# Altium footprint library Sucaiku.PcbLib: 51 footprints (part 1 of 4)
Each footprint in its own frame and in the unit in brackets; x right, y up, seen from the top. Pads: shape width x height; smd on the part's side, far side on the other; paste and mask are expansions set on the pad; w line width, h text height; cw(c..) or ccw(c..) is an arc to the next point about the centre after c.
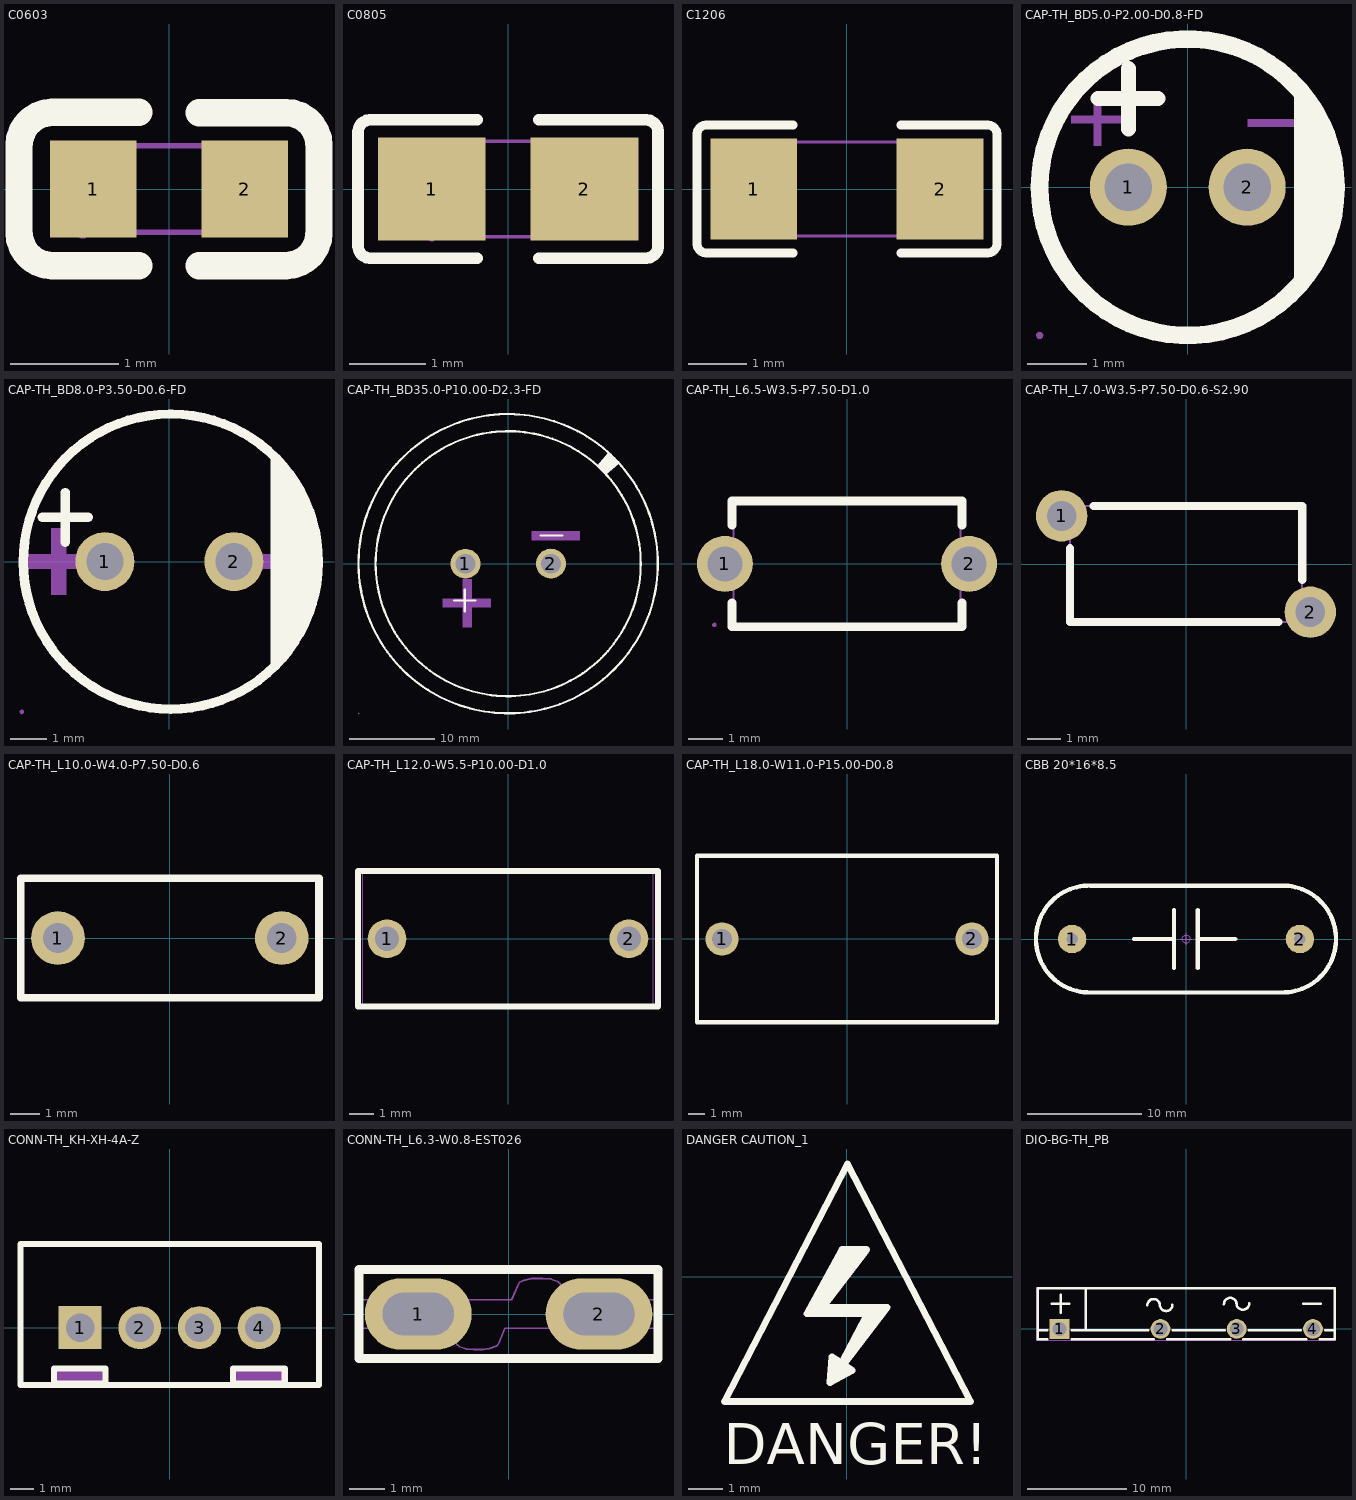
[diagram p0: the footprints below, top view; thin cyan lines are the x and y axes]

## C0603 [mil]
pads (2):
  rect 31.5x35.4 smd: 1(-27.6,0) 2(27.6,0)
Top Overlay:
  lines w10: -11,-27.9 -42.5,-27.9 -45.2,-27.6 -47.8,-26.7 -50.1,-25.3 -52.1,-23.3 -53.5,-21 -54.4,-18.4 -54.7,-15.7 -54.7,15.8 -54.4,18.5 -53.5,21.1 -52.1,23.4 -50.1,25.3 -47.8,26.8 -45.2,27.7 -42.5,28 -11,28 ; 11,-27.9 42.5,-27.9 45.2,-27.6 47.8,-26.7 50.1,-25.3 52.1,-23.4 53.5,-21 54.4,-18.5 54.7,-15.7 54.7,15.7 54.4,18.5 53.5,21 52.1,23.4 50.1,25.3 47.8,26.7 45.2,27.6 42.5,27.9 11,27.9
Mechanical 7:
  lines w2: -31.5,-15.7 -31.5,15.8 31.5,15.8 31.5,-15.7 -31.5,-15.7
Mechanical 8:
  region: -29.1,-15.7 -29.5,-17 -30.5,-17.9 -31.8,-18.1 -33,-17.5 -33.8,-16.4 -33.8,-15.1 -33,-14 -31.8,-13.4 -30.5,-13.6 -29.5,-14.5
Mechanical 9:
  region: -31.5,-15.7 -31.5,15.8 -19.7,15.8 -19.7,-15.7
  region: 31.5,-15.7 31.5,15.8 19.7,15.8 19.7,-15.7

## C0805 [mil]
pads (2):
  rect 55.5x53.1 smd paste-3937 mask+2: 1(-39.3,0) 2(39.4,0)
Top Overlay:
  lines w6: -15.8,-35.6 -71.3,-35.6 -73.1,-35.3 -74.8,-34.4 -76.1,-33.1 -77,-31.4 -77.3,-29.6 -77.3,29.6 -77,31.4 -76.1,33.1 -74.8,34.4 -73.1,35.3 -71.3,35.6 -15.8,35.6 ; 15.8,-35.6 71.3,-35.6 73.2,-35.3 74.9,-34.4 76.2,-33.1 77.1,-31.4 77.3,-29.6 77.3,29.6 77.1,31.4 76.2,33.1 74.9,34.4 73.2,35.3 71.3,35.6 15.8,35.6
Top Paste:
  region: 67.2,25.2 67.2,-25.2 65.2,-27.2 19.9,-27.2 17.9,-25.2 17.8,-9.1 35.5,-9.1 35.5,8.6 18.1,8.6 17.9,25.2 19.9,27.2 65.2,27.2
  region: -67.1,-25.2 -67.1,25.2 -65.1,27.1 -19.8,27.1 -17.9,25.2 -17.7,9 -35.4,9 -35.4,-8.7 -18.1,-8.7 -17.9,-25.2 -19.8,-27.2 -65.1,-27.2
Mechanical 7:
  lines w2: -39.3,-24.6 39.4,-24.6 39.4,24.6 -39.3,24.6 -39.3,-24.6
Mechanical 8:
  region: -37,-24.6 -37.3,-25.9 -38.4,-26.8 -39.7,-27 -40.9,-26.4 -41.6,-25.3 -41.6,-24 -40.9,-22.8 -39.7,-22.3 -38.4,-22.5 -37.3,-23.3
Mechanical 9:
  region: 39.4,24.6 39.4,-24.6 19.7,-24.6 19.7,24.6
  region: -39.3,-24.6 -39.3,24.6 -19.6,24.6 -19.6,-24.6

## C1206 [mil]
pads (2):
  rect 58.5x68 smd paste-3937 mask+2: 1(-62.7,0) 2(62.7,0)
Top Overlay:
  lines w6: -36.4,-43 -94.9,-43 -96.7,-42.7 -98.4,-41.9 -99.7,-40.5 -100.6,-38.9 -100.9,-37 -100.9,37 -100.6,38.9 -99.7,40.5 -98.4,41.9 -96.7,42.7 -94.9,43 -36.4,43 ; 36.5,-43 95,-43 96.8,-42.7 98.5,-41.9 99.8,-40.5 100.7,-38.9 101,-37 101,37 100.7,38.9 99.8,40.5 98.5,41.9 96.8,42.7 95,43 36.5,43
Top Paste:
  region: 33.5,-30.1 33.5,-15.5 37.4,-11.6 49.4,-11.6 53.4,-7.6 53.4,7.6 49.4,11.6 37.4,11.6 33.5,15.5 33.5,30.1 37.4,34 88,34 92,30.1 92,-30.1 88,-34 37.4,-34
  region: -33.4,-30.1 -33.4,-15.5 -37.4,-11.6 -49.4,-11.6 -53.3,-7.6 -53.3,7.6 -49.4,11.6 -37.4,11.6 -33.4,15.5 -33.4,30.1 -37.4,34 -88,34 -91.9,30.1 -91.9,-30.1 -88,-34 -37.4,-34
Mechanical 7:
  lines w2: -63,-31.5 -63,31.5 63,31.5 63,-31.5 -63,-31.5
Mechanical 8:
  region: -60.6,-31.5 -61,-32.8 -62,-33.6 -63.3,-33.8 -64.5,-33.3 -65.2,-32.2 -65.2,-30.8 -64.5,-29.7 -63.3,-29.2 -62,-29.3 -61,-30.2
Mechanical 9:
  region: -63,-31.5 -63,31.5 -43.3,31.5 -43.3,-31.5
  region: 63,-31.5 63,31.5 43.3,31.5 43.3,-31.5

## CAP-TH_BD5.0-P2.00-D0.8-FD [mil]
pads (2):
  round 51.2 hole 31.5: 1(-39.4,0) 2(39.4,0)
Top Overlay:
  region: 70.6,65 76.2,59.2 81.3,52.8 85.7,46.1 89.5,39 92.7,31.6 95.2,23.9 97,16 98.1,8 98.4,0 98.1,-8.1 97,-16.1 95.2,-23.9 92.7,-31.6 89.5,-39 85.7,-46.1 81.3,-52.9 76.2,-59.2 70.6,-65 70.6,65
  lines w10: -59.7,59 -19.7,59 ; -39.4,38.7 -39.4,78.7
  lines w11.8: -98.4,0 -98,-8.8 -96.8,-17.6 -94.9,-26.2 -92.1,-34.6 -88.7,-42.7 -84.5,-50.5 -79.6,-57.9 -74.1,-64.8 -68,-71.2 -61.4,-77 -54.2,-82.2 -46.6,-86.7 -38.7,-90.5 -30.4,-93.6 -21.9,-96 -13.2,-97.6 -4.4,-98.3 4.4,-98.3 13.2,-97.6 21.9,-96 30.4,-93.6 38.7,-90.5 46.7,-86.7 54.2,-82.2 61.4,-77 68,-71.2 74.1,-64.8 79.6,-57.9 84.5,-50.5 88.7,-42.7 92.2,-34.6 94.9,-26.2 96.9,-17.6 98,-8.8 98.4,0 98,8.8 96.9,17.6 94.9,26.2 92.2,34.6 88.7,42.7 84.5,50.5 79.6,57.8 74.1,64.7 68,71.1 61.4,76.9 54.2,82.1 46.7,86.7 38.7,90.5 30.4,93.6 21.9,95.9 13.2,97.5 4.4,98.3 -4.4,98.3 -13.2,97.5 -21.9,95.9 -30.4,93.6 -38.7,90.5 -46.6,86.7 -54.2,82.1 -61.4,76.9 -68,71.1 -74.1,64.7 -79.6,57.8 -84.5,50.5 -88.7,42.7 -92.1,34.6 -94.9,26.2 -96.8,17.6 -98,8.8 -98.4,0
Mechanical 6:
  region: -77.5,47.5 -42.5,47.5 -42.5,42.5 -77.5,42.5
  region: -62.5,27.5 -62.5,62.5 -57.5,62.5 -57.5,27.5
  region: 40,45 75,45 75,40 40,40
Mechanical 7:
  lines w2: -98.4,0 ccw(c0,0) 0,-98.4 ccw(c0,0) 98.4,0 ccw(c0,0) 0,98.4 ccw(c0,0) -98.4,0
Mechanical 8:
  region: -96.1,-98.4 -96.4,-99.7 -97.4,-100.6 -98.8,-100.8 -100,-100.2 -100.7,-99.1 -100.7,-97.8 -100,-96.7 -98.8,-96.1 -97.4,-96.3 -96.4,-97.2
Mechanical 9:
  region: -27.5,0 -27.9,-3 -29,-5.7 -30.7,-8.1 -33,-10 -35.7,-11.3 -38.6,-11.8 -41.6,-11.6 -44.4,-10.7 -46.9,-9.1 -48.9,-7 -50.3,-4.4 -51.1,-1.5 -51.1,1.5 -50.3,4.3 -48.9,6.9 -46.9,9.1 -44.4,10.7 -41.6,11.6 -38.6,11.8 -35.7,11.2 -33,10 -30.7,8.1 -29,5.7 -27.9,2.9
  region: 51.2,0 50.8,-3 49.7,-5.7 48,-8.1 45.7,-10 43,-11.3 40.1,-11.8 37.2,-11.6 34.3,-10.7 31.8,-9.1 29.8,-7 28.4,-4.4 27.7,-1.5 27.7,1.5 28.4,4.3 29.8,6.9 31.8,9.1 34.3,10.7 37.2,11.6 40.1,11.8 43,11.2 45.7,10 48,8.1 49.7,5.7 50.8,2.9

## CAP-TH_BD8.0-P3.50-D0.6-FD [mil]
pads (2):
  round 63 hole 39.4: 1(-68.9,0) 2(68.9,0)
Top Overlay:
  region: 108.3,-118.1 115.8,-109.7 122.8,-100.7 129.1,-91.4 134.9,-81.6 139.9,-71.4 144.3,-61 148,-50.3 150.9,-39.3 153.2,-28.2 154.7,-17 155.4,-5.7 155.4,5.6 154.7,16.9 153.2,28.2 150.9,39.3 148,50.2 144.3,60.9 139.9,71.4 134.9,81.5 129.1,91.3 122.8,100.7 115.8,109.6 108.3,118.1 108.3,-118.1
  lines w10: -135.6,47.2 -86.6,47.2 ; -111.1,20.7 -111.1,73.7 ; 0.1,157.5 -11.1,157 -22.2,155.7 -33.2,153.6 -44.1,150.7 -54.7,147.1 -65,142.7 -75,137.6 -84.6,131.8 -93.8,125.4 -102.4,118.3 -110.6,110.6 -118.2,102.3 -125.1,93.6 -131.5,84.3 -137.1,74.7 -142.1,64.6 -146.3,54.2 -149.8,43.6 -152.5,32.7 -154.5,21.6 -155.6,10.5 -156,-0.7 -155.5,-11.9 -154.3,-23.1 -152.2,-34.1 -149.4,-44.9 -145.9,-55.5 -141.5,-65.9 -136.5,-75.9 -130.7,-85.5 -124.3,-94.7 -117.3,-103.4 -109.6,-111.6 -101.4,-119.2 -92.6,-126.3 -83.4,-132.6 -73.8,-138.3 -63.7,-143.3 -53.4,-147.6 -42.7,-151.1 -31.9,-153.9 -20.8,-155.9 -9.7,-157.1 1.5,-157.5 12.7,-157.1 23.9,-155.9 34.9,-153.9 45.8,-151.1 56.4,-147.6 66.8,-143.3 76.8,-138.3 86.4,-132.6 95.7,-126.3 104.4,-119.2 112.6,-111.6 120.3,-103.4 127.3,-94.7 133.7,-85.5 139.5,-75.9 144.5,-65.9 148.9,-55.5 152.4,-44.9 155.3,-34.1 157.3,-23.1 158.5,-11.9 159,-0.7 158.6,10.5 157.5,21.6 155.6,32.7 152.8,43.6 149.4,54.2 145.1,64.6 140.2,74.7 134.5,84.3 128.2,93.6 121.2,102.3 113.6,110.6 105.5,118.3 96.8,125.4 87.6,131.8 78,137.6 68,142.7 57.7,147.1 47.1,150.7 36.3,153.6 25.2,155.7 14.1,157 2.9,157.5
Mechanical 6:
  region: 137.8,7.8 82.7,7.8 82.7,-7.9 145.7,-7.9 153.6,-7.9 153.6,7.8
  region: -98.4,7.8 -153.5,7.8 -153.5,-7.9 -90.5,-7.9 -82.7,-7.9 -82.7,7.8
  region: -126,19.7 -126,-35.5 -110.2,-35.5 -110.2,27.5 -110.2,35.4 -126,35.4
Mechanical 7:
  circle w2: c0,-2.9 r157.5
  lines w2: -0.1,-160.3 0,-160.3
Mechanical 8:
  region: -155.2,-160.3 -155.5,-161.6 -156.5,-162.5 -157.9,-162.7 -159.1,-162.1 -159.8,-161 -159.8,-159.7 -159.1,-158.6 -157.9,-158 -156.5,-158.2 -155.5,-159.1
Mechanical 9:
  region: 80.7,0 80.4,-3 79.3,-5.7 77.5,-8.1 75.2,-10 72.6,-11.3 69.7,-11.8 66.7,-11.6 63.9,-10.7 61.4,-9.1 59.3,-7 57.9,-4.4 57.2,-1.5 57.2,1.4 57.9,4.3 59.3,6.9 61.4,9.1 63.9,10.7 66.7,11.6 69.7,11.8 72.6,11.2 75.2,9.9 77.5,8.1 79.3,5.7 80.4,2.9
  region: -57.1,0 -57.4,-3 -58.5,-5.7 -60.3,-8.1 -62.6,-10 -65.2,-11.3 -68.1,-11.8 -71.1,-11.6 -73.9,-10.7 -76.4,-9.1 -78.5,-7 -79.9,-4.4 -80.6,-1.5 -80.6,1.4 -79.9,4.3 -78.5,6.9 -76.4,9.1 -73.9,10.7 -71.1,11.6 -68.1,11.8 -65.2,11.2 -62.6,9.9 -60.3,8.1 -58.5,5.7 -57.4,2.9

## CAP-TH_BD35.0-P10.00-D2.3-FD [mil]
pads (2):
  round 137.8 hole 90.6: 1(-196.86,-0.19) 2(196.86,0.19)
Top Overlay:
  drawing of 363 lines, arcs and shapes, not listed
Mechanical 6:
  region: -301.31,-201.5 -301.34,-161.49 -81.36,-161.26 -81.34,-201.27
  region: -168.48,-291.67 -208.49,-291.69 -208.61,-71.62 -168.7,-71.6
  region: 108.89,108.87 108.87,148.88 328.84,149.01 328.86,109
Mechanical 7:
  lines w2: -689.2,0 cw(c0,0) 689.2,0 cw(c0,0) -689.2,0
Mechanical 8:
  region: -686.16,-689.74 -686.59,-691.03 -687.61,-691.91 -688.91,-692.07 -690.1,-691.55 -690.87,-690.43 -690.84,-689.03 -690.11,-687.94 -688.9,-687.37 -687.61,-687.61 -686.62,-688.43
Mechanical 9:
  region: -226.39,15.54 -167.27,15.59 -167.24,-15.82 -226.36,-15.87
  region: 167.34,15.92 226.36,15.97 226.39,-15.54 167.37,-15.59

## CAP-TH_L6.5-W3.5-P7.50-D1.0 [mil]
pads (2):
  round 63 hole 39.4: 1(-137.8,0) 2(137.7,0)
Top Overlay:
  lines w10: -130,-43.8 -130,-70.9 129.9,-70.9 129.9,-43.8 ; -130,43.8 -130,70.9 129.9,70.9 129.9,43.8
Mechanical 7:
  lines w2: -128,-68.9 -128,68.9 127.9,68.9 127.9,-68.9 -128,-68.9
Mechanical 8:
  region: -147.3,-68.9 -147.7,-70.2 -148.7,-71 -150,-71.2 -151.2,-70.7 -151.9,-69.6 -151.9,-68.2 -151.2,-67.1 -150,-66.6 -148.7,-66.7 -147.7,-67.6
Mechanical 9:
  region: -126,0 -126.4,-2.9 -127.5,-5.7 -129.2,-8.1 -131.5,-10 -134.2,-11.2 -137.1,-11.8 -140,-11.6 -142.9,-10.7 -145.4,-9.1 -147.4,-6.9 -148.8,-4.3 -149.6,-1.5 -149.6,1.5 -148.8,4.4 -147.4,7 -145.4,9.1 -142.9,10.7 -140,11.6 -137.1,11.8 -134.2,11.2 -131.5,10 -129.2,8.1 -127.5,5.7 -126.4,2.9
  region: 149.6,0 149.2,-2.9 148.1,-5.7 146.4,-8.1 144.1,-10 141.4,-11.2 138.5,-11.8 135.5,-11.6 132.7,-10.7 130.2,-9.1 128.2,-6.9 126.8,-4.3 126,-1.5 126,1.5 126.8,4.4 128.2,7 130.2,9.1 132.7,10.7 135.5,11.6 138.5,11.8 141.4,11.2 144.1,10 146.4,8.1 148.1,5.7 149.2,2.9

## CAP-TH_L7.0-W3.5-P7.50-D0.6-S2.90 [mil]
pads (2):
  round 61 hole 35.4 paste-99999 mask+2: 1(-147.7,57.1) 2(147.6,-57.1)
Top Overlay:
  lines w10: -137.8,18.7 -137.8,-68.9 109.8,-68.9 ; -109.9,68.9 137.8,68.9 137.8,-18.7
Mechanical 7:
  lines w2: -137.8,-68.9 -137.8,68.9 137.8,68.9 137.8,-68.9 -137.8,-68.9
Mechanical 8:
  region: -157.1,68.9 -157.5,67.6 -158.5,66.8 -159.8,66.6 -161,67.1 -161.7,68.3 -161.7,69.6 -161,70.7 -159.8,71.3 -158.5,71.1 -157.5,70.2
Mechanical 9:
  region: 159.4,-57.1 159.1,-60 158,-62.8 156.2,-65.2 153.9,-67 151.3,-68.3 148.3,-68.9 145.4,-68.7 142.6,-67.8 140.1,-66.2 138,-64 136.6,-61.4 135.9,-58.6 135.9,-55.6 136.6,-52.7 138,-50.1 140.1,-48 142.6,-46.4 145.4,-45.5 148.3,-45.3 151.3,-45.8 153.9,-47.1 156.2,-49 158,-51.4 159.1,-54.1
  region: -135.8,57.1 -136.2,54.2 -137.3,51.4 -139.1,49 -141.3,47.1 -144,45.9 -146.9,45.3 -149.9,45.5 -152.7,46.4 -155.2,48 -157.2,50.2 -158.6,52.8 -159.4,55.6 -159.4,58.6 -158.6,61.5 -157.2,64.1 -155.2,66.2 -152.7,67.8 -149.9,68.7 -146.9,68.9 -144,68.3 -141.3,67.1 -139.1,65.2 -137.3,62.8 -136.2,60

## CAP-TH_L10.0-W4.0-P7.50-D0.6 [mil]
pads (2):
  round 70.9 hole 39.4: 1(-147.7,0) 2(147.6,0)
Top Overlay:
  lines w10: -196.9,-78.8 -196.9,78.7 196.8,78.7 196.8,-78.8 -196.9,-78.8
Mechanical 7:
  lines w2: -196.9,-78.8 -196.9,78.7 196.8,78.7 196.8,-78.8 -196.9,-78.8
Mechanical 8:
  region: -194.5,-78.8 -194.9,-80 -195.9,-80.9 -197.2,-81.1 -198.4,-80.5 -199.1,-79.4 -199.1,-78.1 -198.4,-77 -197.2,-76.4 -195.9,-76.6 -194.9,-77.5
Mechanical 9:
  region: -135.8,0 -136.2,-3 -137.3,-5.7 -139,-8.1 -141.3,-10 -144,-11.3 -146.9,-11.8 -149.9,-11.6 -152.7,-10.7 -155.2,-9.1 -157.2,-7 -158.6,-4.4 -159.4,-1.5 -159.4,1.5 -158.6,4.3 -157.2,6.9 -155.2,9.1 -152.7,10.7 -149.9,11.6 -146.9,11.8 -144,11.2 -141.3,9.9 -139,8.1 -137.3,5.7 -136.2,2.9
  region: 159.4,0 159.1,-3 158,-5.7 156.2,-8.1 154,-10 151.3,-11.3 148.4,-11.8 145.4,-11.6 142.6,-10.7 140.1,-9.1 138.1,-7 136.6,-4.4 135.9,-1.5 135.9,1.5 136.6,4.3 138.1,6.9 140.1,9.1 142.6,10.7 145.4,11.6 148.4,11.8 151.3,11.2 154,9.9 156.2,8.1 158,5.7 159.1,2.9

## CAP-TH_L12.0-W5.5-P10.00-D1.0 [mil]
pads (2):
  round 63 hole 39.4: 1(-196.9,0) 2(196.8,0)
Top Overlay:
  lines w10: -244.1,-110.3 244.1,-110.3 244.1,110.2 -244.1,110.2 -244.1,-110.3
Mechanical 7:
  lines w2: -236.2,-108.3 236.2,-108.3 236.2,108.2 -236.2,108.2 -236.2,-108.3
Mechanical 8:
  region: -233.9,-108.3 -234.2,-109.6 -235.2,-110.5 -236.6,-110.7 -237.8,-110.1 -238.5,-109 -238.5,-107.6 -237.8,-106.5 -236.6,-106 -235.2,-106.2 -234.2,-107
Mechanical 9:
  region: -185,0 -185.4,-3 -186.5,-5.7 -188.3,-8.1 -190.5,-10 -193.2,-11.3 -196.1,-11.8 -199.1,-11.6 -201.9,-10.7 -204.4,-9.1 -206.4,-7 -207.8,-4.4 -208.6,-1.5 -208.6,1.4 -207.8,4.3 -206.4,6.9 -204.4,9.1 -201.9,10.6 -199.1,11.6 -196.1,11.7 -193.2,11.2 -190.5,9.9 -188.3,8 -186.5,5.6 -185.4,2.9
  region: 208.7,0 208.3,-3 207.2,-5.7 205.4,-8.1 203.2,-10 200.5,-11.3 197.6,-11.8 194.6,-11.6 191.8,-10.7 189.3,-9.1 187.3,-7 185.9,-4.4 185.1,-1.5 185.1,1.4 185.9,4.3 187.3,6.9 189.3,9.1 191.8,10.6 194.6,11.6 197.6,11.7 200.5,11.2 203.2,9.9 205.4,8 207.2,5.6 208.3,2.9

## CAP-TH_L18.0-W11.0-P15.00-D0.8 [mil]
pads (2):
  round 78.7 hole 47.2: 1(-295.3,0) 2(295.2,0)
Top Overlay:
  lines w10: -354.4,-196.9 -354.4,196.8 354.3,196.8 354.3,-196.9 -354.4,-196.9
Mechanical 9:
  region: -279.6,0 -280,-3.5 -281.1,-6.8 -283,-9.8 -285.5,-12.3 -288.5,-14.2 -291.8,-15.4 -295.3,-15.8 -298.8,-15.4 -302.1,-14.2 -305.1,-12.3 -307.6,-9.8 -309.5,-6.8 -310.7,-3.5 -311.1,0 -310.7,3.5 -309.5,6.8 -307.6,9.8 -305.1,12.3 -302.1,14.2 -298.8,15.3 -295.3,15.7 -291.8,15.3 -288.5,14.2 -285.5,12.3 -283,9.8 -281.1,6.8 -280,3.5
  region: 311,0 310.6,-3.5 309.4,-6.8 307.6,-9.8 305.1,-12.3 302.1,-14.2 298.8,-15.4 295.3,-15.8 291.7,-15.4 288.4,-14.2 285.4,-12.3 282.9,-9.8 281.1,-6.8 279.9,-3.5 279.5,0 279.9,3.5 281.1,6.8 282.9,9.8 285.4,12.3 288.4,14.2 291.7,15.3 295.3,15.7 298.8,15.3 302.1,14.2 305.1,12.3 307.6,9.8 309.4,6.8 310.6,3.5

## CBB 20*16*8.5 [mil]
pads (2):
  round 98.4 hole 39.4: 1(-393.7,0) 2(393.7,0)
Top Overlay:
  lines w15: -330,184.3 350,184.3 ; -330,184.7 -342,184.5 -354,183.6 -365.9,181.9 -377.6,179.4 -389.1,176.2 -400.5,172.2 -411.5,167.6 -422.2,162.2 -432.5,156.1 -442.5,149.3 -451.9,142 -460.9,134 -469.3,125.5 -477.2,116.4 -484.4,106.8 -491,96.8 -497,86.4 -502.2,75.7 -506.8,64.6 -510.6,53.2 -513.7,41.6 -516,29.8 -517.6,18 -518.4,6 -518.4,-6 -517.6,-18 -516,-29.9 -513.7,-41.6 -510.6,-53.2 -506.8,-64.6 -502.2,-75.7 -497,-86.5 -491,-96.9 -484.4,-106.9 -477.2,-116.4 -469.3,-125.5 -460.9,-134 -451.9,-142 -442.4,-149.3 -432.5,-156.1 -422.2,-162.2 -411.5,-167.6 -400.4,-172.3 -389.1,-176.2 -377.6,-179.4 -365.8,-181.9 -354,-183.6 -342,-184.5 -330,-184.7 330,-184.7 342,-184.5 353.9,-183.6 365.8,-181.9 377.5,-179.4 389.1,-176.2 400.4,-172.2 411.4,-167.6 422.1,-162.2 432.5,-156.1 442.4,-149.3 451.9,-142 460.8,-134 469.2,-125.5 477.1,-116.4 484.4,-106.8 491,-96.8 496.9,-86.4 502.2,-75.7 506.7,-64.6 510.6,-53.2 513.6,-41.6 516,-29.8 517.5,-18 518.3,-6 518.3,6 517.5,18 516,29.9 513.6,41.6 510.6,53.2 506.7,64.6 502.2,75.7 496.9,86.5 491,96.9 484.3,106.9 477.1,116.4 469.2,125.5 460.8,134 451.8,142 442.4,149.3 432.5,156.1 422.1,162.2 411.4,167.6 400.4,172.3 389.1,176.2 377.5,179.4 365.8,181.9 353.9,183.6 341.9,184.5 330,184.7 ; -180,0 -50.3,0 ; -41.5,-100 -41.5,100 ; 40,-100 40,100 ; 40,0 170,0
Mechanical 15:
  lines w2: -19.7,0 19.7,0 ; 0,-19.7 0,19.7 ; -13.7,-1.6 -13,-4.7 -11.5,-7.6 -9.5,-10 -6.9,-11.9 -4,-13.2 -0.8,-13.8 2.4,-13.6 5.4,-12.7 8.2,-11.1 10.5,-8.9 12.3,-6.2 13.4,-3.2 13.7,0 13.4,3.2 12.3,6.2 10.5,8.9 8.2,11.1 5.4,12.7 2.4,13.6 -0.8,13.8 -4,13.2 -6.9,11.9 -9.5,10 -11.5,7.6 -13,4.7 -13.7,1.6 -13.7,-1.6

## CONN-TH_KH-XH-4A-Z [mil]
pads (4):
  rect 70.9x70.9 hole 47.2 paste-99999 mask+2: 1(-147.6,0)
  round 70.9 hole 47.2 paste-99999 mask+2: 2(-49.2,0) 3(49.2,0) 4(147.6,0)
Top Overlay:
  lines w10: -246.1,-94.5 -246.1,137.8 246.1,137.8 246.1,-94.5 -246.1,-94.5 ; -190.6,-92.5 -190.6,-67.5 -105.6,-67.5 -105.6,-92.5 -190.6,-92.5 ; 104.6,-92.5 104.6,-67.5 189.6,-67.5 189.6,-92.5 104.6,-92.5
Mechanical 6:
  region: -190.9,-92.1 -190.9,-68.1 -104.3,-68.1 -104.3,-92.1
  region: 104.3,-92.1 104.3,-68.1 190.9,-68.1 190.9,-92.1
Mechanical 7:
  lines w2: -246.1,-92.5 -246.1,139.7 246.1,139.7 246.1,-92.5 -246.1,-92.5
Mechanical 8:
  region: -243.7,-92.5 -244.1,-93.8 -245.1,-94.7 -246.4,-94.9 -247.6,-94.3 -248.3,-93.2 -248.3,-91.9 -247.6,-90.8 -246.4,-90.2 -245.1,-90.4 -244.1,-91.3
Mechanical 9:
  region: -160.2,15.7 -135,15.7 -135,-15.8 -160.2,-15.8
  region: -61.8,15.7 -36.6,15.7 -36.6,-15.8 -61.8,-15.8
  region: 36.6,15.7 61.8,15.7 61.8,-15.8 36.6,-15.8
  region: 135,15.7 160.2,15.7 160.2,-15.8 135,-15.8

## CONN-TH_L6.3-W0.8-EST026 [mil]
pads (2):
  oval 118.1x78.7 hole 47.2 slot 78.7 at 0 deg: 1(-100,0) 2(100,0)
Top Overlay:
  lines w10: -165.4,-49.2 165.3,-49.2 165.3,49.2 -165.4,49.2 -165.4,-49.2
Mechanical 7:
  lines w2: -164.4,-15.8 -65.4,-15.8 -65,-16.2 -57.5,-33.5 -54.3,-36.2 -50.8,-37.4 -46.5,-38.6 -38.6,-39.4 -28,-39.4 -21.3,-38.2 -13.4,-35.4 -11,-32.7 -4.3,-16.2 -3.6,-15.8 164.4,-15.8 164.4,15.7 64.9,15.7 57.1,33.5 55.1,35.4 53.5,36.2 46.8,38.6 37.4,39.4 25.2,39.4 16.5,37 11.8,35 3.1,15.7 -164.4,15.7 -164.4,-15.8
Mechanical 8:
  region: -162,-39.4 -162.4,-40.7 -163.4,-41.5 -164.7,-41.7 -165.9,-41.2 -166.7,-40 -166.7,-38.7 -165.9,-37.6 -164.7,-37 -163.4,-37.2 -162.4,-38.1
Mechanical 9:
  region: -123.6,-15.8 -123.6,15.7 -76.4,15.7 -76.4,-15.8
  region: 76.4,-15.8 76.4,15.7 123.6,15.7 123.6,-15.8

## DANGER CAUTION_1 [mil]
Top Overlay:
  lines w7.9: -39.7,-42.7 6.8,31.3 ; -34.6,-42.7 14.3,31.3 ; -28.3,-13.2 0.5,31.3 ; -11.3,-96.2 -12.9,-113.2 ; 0.5,-104.9 -12.9,-113.2 ; 11.1,-75.8 39.1,-35.2 ; 14.3,-35.2 43.4,-39.5 ; 25.7,-52.9 30,-35.2 ; -19.2,-122.2 -12.9,-113.2 ; -19.2,-122.2 -16.9,-92.3 6.4,-108 -19.2,-122.2 ; -12.9,-113.2 24.1,-42.7 -46,-42.7 -5.4,31.3 22.9,31.3 -27.9,-35.2 46.5,-35.2 -12.9,-113.2 ; -140.9,-143.9 0.9,130.1 142.6,-143.9 -140.9,-143.9
  text "DANGER!" at -142,-216 h47.2

## DIO-BG-TH_PB [mil]
pads (4):
  rect 78.7x78.7 hole 55.1: 1(-503.9,0)
  round 78.7 hole 55.1: 2(-102.4,0) 3(200.8,0) 4(503.9,0)
Top Overlay:
  lines w10: -590.5,161.5 590.6,161.5 590.6,-39.3 ; -590.3,-5 -552.4,-5 ; -590.3,160.4 -590.3,-40.4 -552.3,-40.4 ; -535,100 -465,100 ; -500,65 -500,135 ; -455.5,-40.4 -129.1,-40.4 ; -455.5,-5 -400,-5 ; -400,160 -400,-5 ; -155,93.8 -154.6,98.1 -153.5,102.3 -151.6,106.3 -149.1,109.9 -146.1,112.9 -142.5,115.4 -138.5,117.3 -134.3,118.4 -130,118.8 -125.6,118.4 -121.4,117.3 -117.5,115.4 -113.9,112.9 -110.8,109.9 -108.3,106.3 -106.5,102.3 -105.4,98.1 -105,93.8 ; -150.6,-5 -400,-5 ; -105,96.3 -104.6,91.9 -103.5,87.7 -101.6,83.8 -99.1,80.2 -96.1,77.1 -92.5,74.6 -88.5,72.8 -84.3,71.7 -80,71.3 -75.6,71.7 -71.4,72.8 -67.5,74.6 -63.9,77.1 -60.8,80.2 -58.3,83.8 -56.5,87.7 -55.4,91.9 -55,96.3 ; -75.6,-40.4 174.1,-40.4 ; -54.1,-5 152.6,-5 ; 150,98.8 150.4,103.1 151.5,107.3 153.4,111.3 155.9,114.9 158.9,117.9 162.5,120.4 166.5,122.3 170.7,123.4 175,123.8 179.4,123.4 183.6,122.3 187.5,120.4 191.1,117.9 194.2,114.9 196.7,111.3 198.5,107.3 199.6,103.1 200,98.8 ; 200,101.3 200.4,96.9 201.5,92.7 203.4,88.8 205.9,85.2 208.9,82.1 212.5,79.6 216.5,77.8 220.7,76.7 225,76.3 229.4,76.7 233.6,77.8 237.5,79.6 241.1,82.1 244.2,85.2 246.7,88.8 248.5,92.7 249.6,96.9 250,101.3 ; 227.5,-40.4 477.2,-40.4 ; 249,-5 455.7,-5 ; 465,100 535,100 ; 530.7,-40.4 590.6,-40.4 ; 552.2,-5 590.6,-5
Mechanical 7:
  lines w2: -595.5,-45.4 -595.5,166.5 595.6,166.5 595.6,-45.4 -595.5,-45.4
Mechanical 8:
  region: -593.2,-45.4 -593.6,-46.6 -594.6,-47.5 -595.9,-47.7 -597.1,-47.1 -597.8,-46 -597.8,-44.7 -597.1,-43.6 -595.9,-43 -594.6,-43.2 -593.6,-44.1
Mechanical 9:
  region: 527.6,0 527.2,-4.2 526.1,-8.3 524.2,-12.1 521.7,-15.5 518.7,-18.4 515.1,-20.8 511.2,-22.4 507.1,-23.4 502.9,-23.6 498.7,-23 494.7,-21.7 490.9,-19.7 487.6,-17 484.8,-13.8 482.7,-10.2 481.2,-6.2 480.4,-2.1 480.4,2.2 481.2,6.3 482.7,10.3 484.8,13.9 487.6,17.1 490.9,19.8 494.7,21.8 498.7,23.1 502.9,23.6 507.1,23.4 511.2,22.5 515.1,20.8 518.7,18.5 521.7,15.6 524.2,12.2 526.1,8.3 527.2,4.3
  region: 224.4,0 224,-4.2 222.9,-8.3 221.1,-12.1 218.6,-15.5 215.5,-18.4 212,-20.8 208.1,-22.4 204,-23.4 199.7,-23.6 195.5,-23 191.5,-21.7 187.8,-19.7 184.5,-17 181.7,-13.8 179.5,-10.2 178,-6.2 177.3,-2.1 177.3,2.2 178,6.3 179.5,10.3 181.7,13.9 184.5,17.1 187.8,19.8 191.5,21.8 195.5,23.1 199.7,23.6 204,23.4 208.1,22.5 212,20.8 215.5,18.5 218.6,15.6 221.1,12.2 222.9,8.3 224,4.3
  region: -78.7,0 -79.1,-4.2 -80.2,-8.3 -82.1,-12.1 -84.6,-15.5 -87.6,-18.4 -91.2,-20.8 -95.1,-22.4 -99.2,-23.4 -103.4,-23.6 -107.6,-23 -111.6,-21.7 -115.4,-19.7 -118.7,-17 -121.5,-13.8 -123.6,-10.2 -125.1,-6.2 -125.9,-2.1 -125.9,2.2 -125.1,6.3 -123.6,10.3 -121.5,13.9 -118.7,17.1 -115.4,19.8 -111.6,21.8 -107.6,23.1 -103.4,23.6 -99.2,23.4 -95.1,22.5 -91.2,20.8 -87.6,18.5 -84.6,15.6 -82.1,12.2 -80.2,8.3 -79.1,4.3
  region: -480.3,0 -480.7,-4.2 -481.8,-8.3 -483.7,-12.1 -486.1,-15.5 -489.2,-18.4 -492.7,-20.8 -496.6,-22.4 -500.8,-23.4 -505,-23.6 -509.2,-23 -513.2,-21.7 -516.9,-19.7 -520.3,-17 -523,-13.8 -525.2,-10.2 -526.7,-6.2 -527.5,-2.1 -527.5,2.2 -526.7,6.3 -525.2,10.3 -523,13.9 -520.3,17.1 -516.9,19.8 -513.2,21.8 -509.2,23.1 -505,23.6 -500.8,23.4 -496.6,22.5 -492.7,20.8 -489.2,18.5 -486.1,15.6 -483.7,12.2 -481.8,8.3 -480.7,4.3